# Altium footprint library Keyboard.PcbLib: 46 footprints (part 2 of 3)
Each footprint in its own frame and in the unit in brackets; x right, y up, seen from the top. Pads: shape width x height; smd on the part's side, far side on the other; paste and mask are expansions set on the pad; w line width, h text height; cw(c..) or ccw(c..) is an arc to the next point about the centre after c.
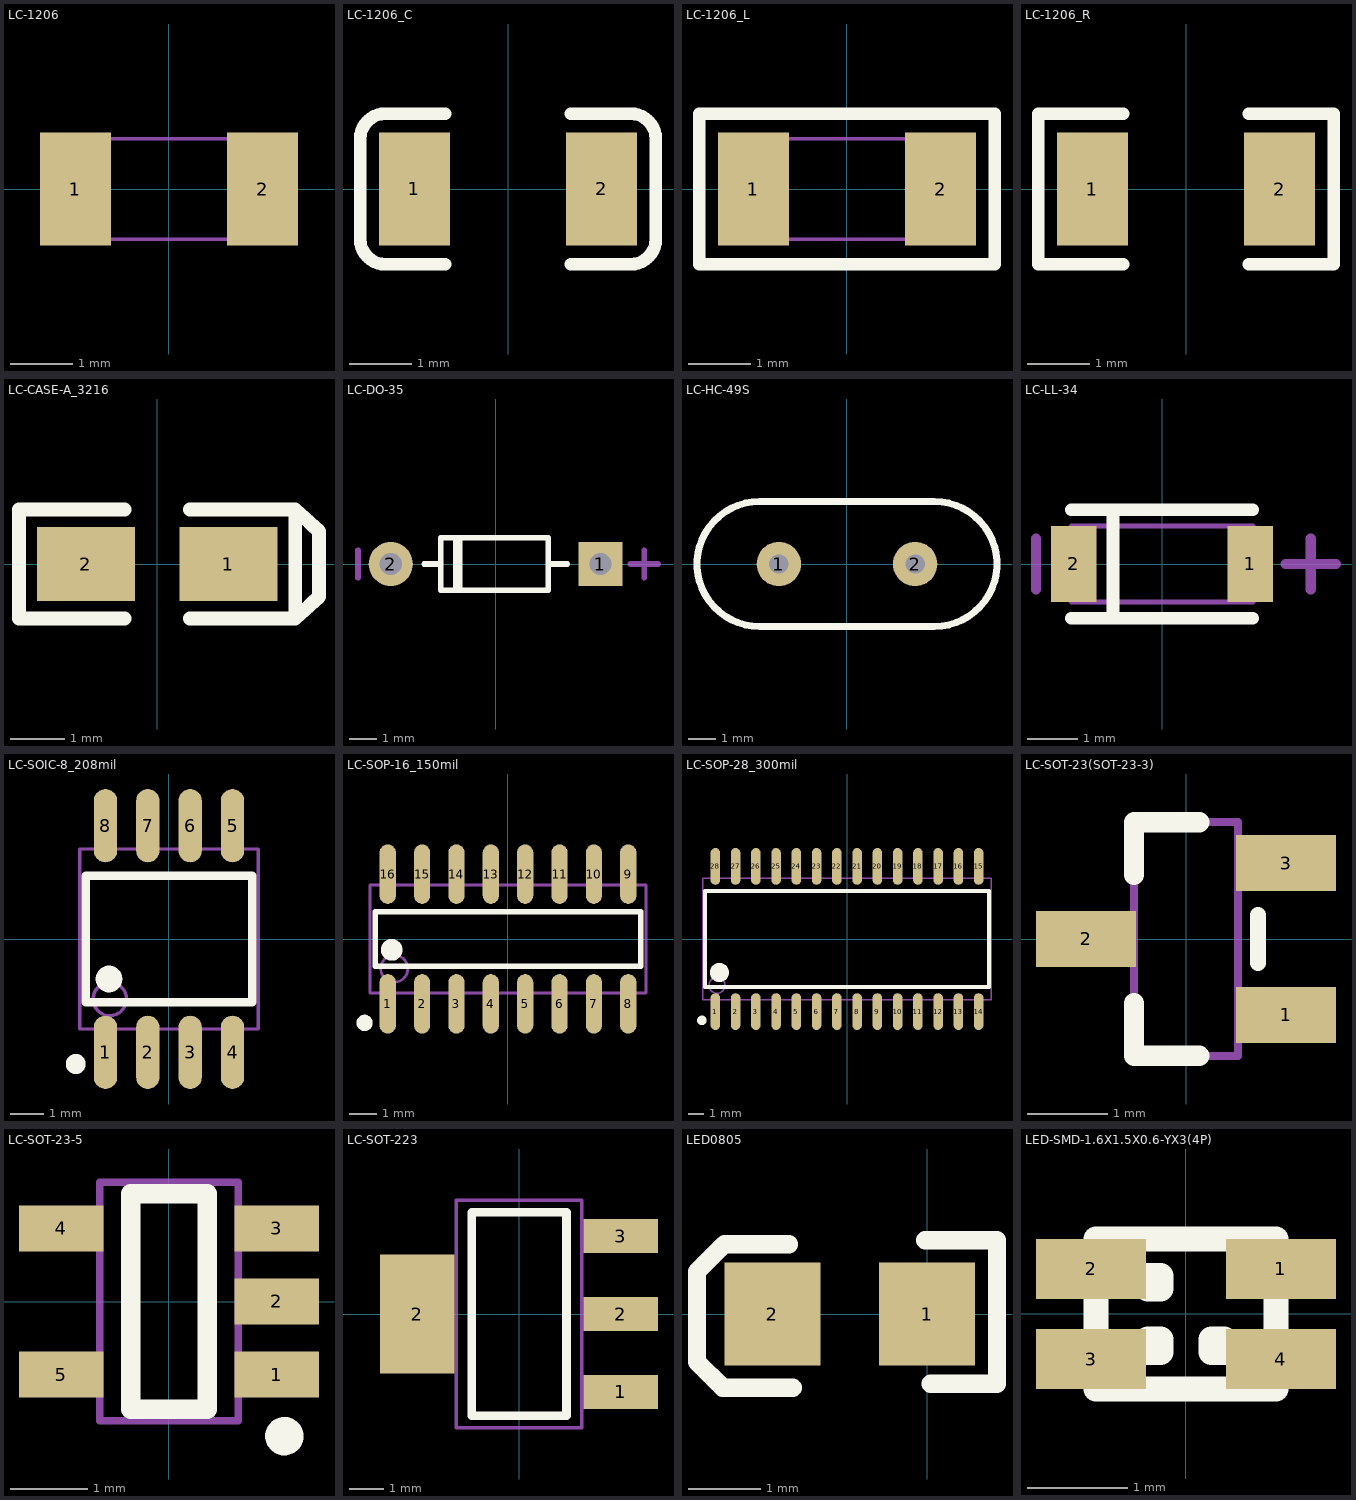
[diagram p1: the footprints below, top view; thin cyan lines are the x and y axes]

## LC-1206 [mm]
pads (2):
  rect 1.13x1.8 smd: 1(-1.49,0) 2(1.49,0)
Mechanical 13:
  lines w0.05: -1.6,-0.8 -1.6,0.8 1.6,0.8 1.6,-0.8 -1.6,-0.8

## LC-1206_C [mm]
pads (2):
  rect 1.13x1.8 smd: 1(-1.49,0) 2(1.49,0)
Top Overlay:
  lines w0.2: -1,-1.2 -1.955,-1.2 cw(c-1.955,-0.8) -2.355,-0.8 -2.355,0.8 cw(c-1.955,0.8) -1.955,1.2 -1,1.2 ; 1,-1.2 1.955,-1.2 ccw(c1.955,-0.8) 2.355,-0.8 2.355,0.8 ccw(c1.955,0.8) 1.955,1.2 1,1.2
3D body "C1206.STEP": height 1, standoff 0, extent -1.602,-0.813 1.598,0.787

## LC-1206_L [mm]
pads (2):
  rect 1.13x1.8 smd: 1(-1.49,0) 2(1.49,0)
Top Overlay:
  lines w0.2: -2.355,-1.2 -2.355,1.2 2.355,1.2 2.355,-1.2 -2.355,-1.2
Mechanical 13:
  lines w0.05: -1.6,-0.8 -1.6,0.8 1.6,0.8 1.6,-0.8 -1.6,-0.8

## LC-1206_R [mm]
pads (2):
  rect 1.13x1.8 smd: 1(-1.49,0) 2(1.49,0)
Top Overlay:
  lines w0.2: -1,-1.2 -2.355,-1.2 -2.355,1.2 -1,1.2 ; 1,-1.2 2.355,-1.2 2.355,1.2 1,1.2
3D body "User Library-RES_3216-1206.STEP": height 0.85, standoff 0, extent -1.7,-0.864 1.65,0.866

## LC-CASE-A_3216 [mm]
pads (2):
  rect 1.8x1.35 smd: 1(1.31,0) 2(-1.31,0)
Top Overlay:
  lines w0.254: -0.6,-1.002 -2.537,-1.002 -2.537,1.002 -0.6,1.002 ; 0.6,-1.002 2.537,-1.002 ; 0.6,1.002 2.537,1.002 ; 2.537,-1.002 2.973,-0.6 2.973,0.6 2.537,1.002 ; 2.537,-1.002 2.537,1.002
3D body "User Library-AVX_ACASE.STEP": height 1.71, standoff 0, extent -1.7,-0.84 1.7,0.84

## LC-DO-35 [mm]
pads (2):
  rect 1.6x1.6 hole 0.8: 1(3.81,0)
  round 1.6 hole 0.8: 2(-3.81,0)
Top Overlay:
  lines w0.2: -2.6,0 -2.001,0 ; -1.448,-0.95 -1.448,0.95 ; -1.3,-0.95 -1.3,0.95 ; 1.899,-0.95 -2.001,-0.95 -2.001,0.95 1.899,0.95 ; 1.911,-0.95 1.911,0.95 ; 1.911,0 2.6,0
Mechanical 15:
  lines w0.203: -5,-0.5 -5,0.5 ; 4.9,0 5.9,0 ; 5.4,-0.5 5.4,0.5
3D body "DO-35.STEP": height 1.92, standoff -1.9, extent -4.098,-0.888 4.072,0.914

## LC-HC-49S [mm]
pads (2):
  round 1.6 hole 0.7: 1(-2.45,0) 2(2.45,0)
Top Overlay:
  lines w0.254: -3.15,-2.248 cw(c-3.15,0) -3.15,2.248 3.15,2.248 cw(c3.15,0) 3.15,-2.248 -3.15,-2.248
3D body "hc-49s_n.stp": height 3.6, standoff -2.9, extent -5.388,-2.27 5.412,2.23

## LC-LL-34 [mm]
pads (2):
  rect 0.9x1.5 smd: 1(1.75,0) 2(-1.75,0)
Top Overlay:
  lines w0.254: -1.8,-1.075 1.8,-1.075 ; -1.8,1.075 1.8,1.075 ; -0.975,-1.075 -0.975,1.075
Mechanical 13:
  lines w0.1: -1.8,-0.75 -1.8,0.75 1.8,0.75 1.8,-0.75 -1.8,-0.75
Mechanical 15:
  lines w0.203: -2.5,-0.5 -2.5,0.5 ; 2.45,0 3.45,0 ; 2.95,-0.5 2.95,0.5

## LC-SOIC-8_208mil [mm]
pads (8):
  oval 0.7x2.2 smd: 1(-1.905,-3.4) 2(-0.635,-3.4) 3(0.635,-3.4) 4(1.905,-3.4) 5(1.905,3.4) 6(0.635,3.4) 7(-0.635,3.4) 8(-1.905,3.4)
Top Overlay:
  circle w0.3: c-2.797,-3.75 r0.15
  circle w0.4: c-1.8,-1.2 r0.2
  lines w0.254: -2.5,-1.9 -2.5,1.9 2.5,1.9 2.5,-1.9 -2.5,-1.9
Mechanical 13:
  circle w0.1: c-1.775,-1.8 r0.5
  lines w0.1: -2.675,-2.7 -2.675,2.7 2.675,2.7 2.675,-2.7 -2.675,-2.7

## LC-SOP-16_150mil [mm]
pads (16):
  oval 0.6x2.2 smd: 1(-4.445,-2.4) 2(-3.175,-2.4) 3(-1.905,-2.4) 4(-0.635,-2.4) 5(0.635,-2.4) 6(1.905,-2.4) 7(3.175,-2.4) 8(4.445,-2.4) 9(4.445,2.4) 10(3.175,2.4) 11(1.905,2.4) 12(0.635,2.4) 13(-0.635,2.4) 14(-1.905,2.4) 15(-3.175,2.4) 16(-4.445,2.4)
Top Overlay:
  circle w0.4: c-4.3,-0.4 r0.2
  circle w0.3: c-5.3,-3.1 r0.15
  lines w0.2: -4.9,-1 4.9,-1 4.9,1 -4.9,1 -4.9,-1
Mechanical 13:
  circle w0.1: c-4.205,-1.095 r0.5
  lines w0.1: -5.105,-1.995 5.105,-1.995 5.105,1.995 -5.105,1.995 -5.105,-1.995

## LC-SOP-28_300mil [mm]
pads (28):
  oval 0.6x2.3 smd: 1(-8.255,-4.55) 2(-6.985,-4.55) 3(-5.715,-4.55) 4(-4.445,-4.55) 5(-3.175,-4.55) 6(-1.905,-4.55) 7(-0.635,-4.55) 8(0.635,-4.55) 9(1.905,-4.55) 10(3.175,-4.55) 11(4.445,-4.55) 12(5.715,-4.55) 13(6.985,-4.55) 14(8.255,-4.55) 15(8.255,4.55) 16(6.985,4.55) 17(5.715,4.55) 18(4.445,4.55) 19(3.175,4.55) 20(1.905,4.55) 21(0.635,4.55) 22(-0.635,4.55) 23(-1.905,4.55) 24(-3.175,4.55) 25(-4.445,4.55) 26(-5.715,4.55) 27(-6.985,4.55) 28(-8.255,4.55)
Top Overlay:
  circle w0.6: c-8,-2.1 r0.3
  circle w0.3: c-9.1,-5.1 r0.15
  lines w0.254: -8.9,-3 8.9,-3 8.9,3 -8.9,3 -8.9,-3
Mechanical 13:
  circle w0.1: c-8.15,-2.9 r0.5
  lines w0.1: -9.05,-3.8 9.05,-3.8 9.05,3.8 -9.05,3.8 -9.05,-3.8
3D body: height 2.5, standoff 0.3, extent -9.05,-3.8 9.05,3.8

## LC-SOT-23(SOT-23-3) [mm]
pads (3):
  rect 1.25x0.7 smd: 1(1.25,-0.95) 2(-1.25,0) 3(1.25,0.95)
Top Overlay:
  lines w0.2: 0.9,-0.3 0.9,0.3
  lines w0.254: -0.65,-0.8 -0.65,-1.46 0.165,-1.46 ; 0.165,1.46 -0.65,1.46 ; -0.65,0.8 -0.65,1.46 ; -0.65,0.8 -0.65,1.46 ; -0.65,0.8 -0.65,1.46
Mechanical 13:
  lines w0.1: -0.65,-1.46 -0.65,1.46 ; -0.65,-1.46 0.65,-1.46 ; -0.65,-1.46 0.65,-1.46 ; -0.65,-1.46 -0.65,1.46 ; -0.65,-1.46 0.65,-1.46 ; -0.65,-1.46 -0.65,1.46 ; -0.65,1.46 0.65,1.46 ; -0.65,1.46 0.65,1.46 ; -0.65,1.46 0.65,1.46 ; 0.65,-1.46 0.65,1.46 ; 0.65,-1.46 0.65,1.46 ; 0.65,-1.46 0.65,1.46
3D body "SOT-23.step": height 1.3, standoff 0, extent -1.5,-1.5 1.5,1.5

## LC-SOT-23-5 [mm]
pads (5):
  rect 1.1x0.6 smd: 1(1.4,-0.95) 2(1.4,0) 3(1.4,0.95) 4(-1.4,0.95) 5(-1.4,-0.95)
Top Overlay:
  circle w0.25: c1.5,-1.75 r0.125
  lines w0.254: -0.5,-1.4 0.5,-1.4 0.5,1.4 -0.5,1.4 -0.5,-1.4
Mechanical 13:
  lines w0.1: -0.9,-1.55 -0.9,1.55 0.9,1.55 0.9,-1.55 -0.9,-1.55

## LC-SOT-223 [mm]
pads (4):
  rect 2.2x1 smd: 1(3,-2.3) 2(3,0) 3(3,2.3)
  rect 2.2x3.5 smd: 2(-3,0)
Top Overlay:
  lines w0.254: -1.4,-3 -1.4,3 1.4,3 1.4,-3 -1.4,-3
Mechanical 13:
  lines w0.1: -1.85,-3.35 1.85,-3.35 1.85,3.35 -1.85,3.35 -1.85,-3.35
3D body "TO-223.STEP": height 1.64, standoff -0.04, extent -3.49,-3.242 3.49,3.243

## LED0805 [mil]
pads (2):
  rect 52x56 smd: 1(0,0) 2(-84,0)
Top Layer:
  lines w20: -86,2 -84,0
Top Overlay:
  lines w10: -75,38 -110,38 -125,23 -125,-26 -111,-40 -73,-40 ; -1,40 38,40 38,-38 2,-38

## LED-SMD-1.6X1.5X0.6-YX3(4P) [mm]
pads (4):
  rect 1.1x0.6 smd: 1(0.95,0.45) 2(-0.95,0.45) 3(-0.95,-0.45) 4(0.95,-0.45)
Top Overlay:
  lines w0.254: -0.9,-0.75 0.9,-0.75 0.9,0.75 -0.9,0.75 -0.9,-0.75 ; -0.381,-0.381 -0.254,-0.381 -0.254,-0.254 -0.381,-0.254 -0.381,-0.381 ; -0.381,0.254 -0.254,0.254 -0.254,0.381 -0.381,0.381 -0.381,0.254 ; 0.254,-0.381 0.381,-0.381 0.381,-0.254 0.254,-0.254 0.254,-0.381